# Altium integrated library 530480310.IntLib: 1 symbol
Pins are listed as number, name and electrical type; pins without a type are passive.

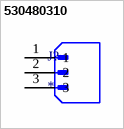
[diagram p0: symbol 530480310]

## 530480310
designator J?
MP: 530480310; Package: None; Value: *; Availability: Unavailable; Price: None
footprint MOLEX_530480310
pins: 1, 2, 3